# EAGLE library part 632723300011 (library 632723300011)
USB Connectors WR-COM USB3.1 Type C SuperSpeed+ Rcpt Source: Datasheet <http://katalog.we-online.de/em/datasheet/632723x00011.pdf>
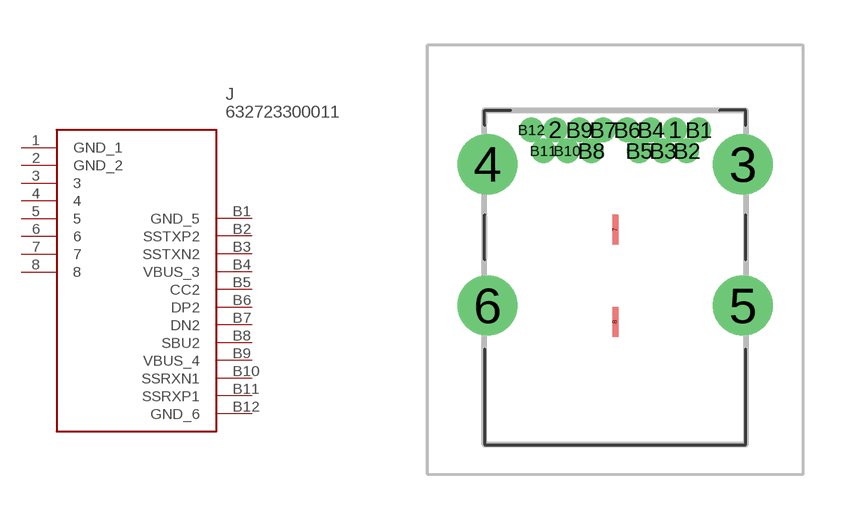
[diagram p0: symbol with the pads of 632723300011; footprint 632723300011]

Designator prefix J

## 632723300011 (DESCRIPTION: USB Connectors WR-COM USB3.1 Type C SuperSpeed+ Rcpt; HEIGHT: 2mm; MANUFACTURER_NAME: Wurth Elektronik; MANUFACTURER_PART_NUMBER: 632723300011; MOUSER_PART_NUMBER: 710-632723300011; MOUSER_PRICE-STOCK: https://www.mouser.co.uk/ProductDetail/Wurth-Elektronik/632723300011?qs=NK6InXoXhq4%252B5eM1PePLPg%3D%3D)  [632723300011]
1  GND_1
2  GND_2
3  3
4  4
5  5
6  6
7  7
8  8
B1  GND_5
B2  SSTXP2
B3  SSTXN2
B4  VBUS_3
B5  CC2
B6  DP2
B7  DN2
B8  SBU2
B9  VBUS_4
B10  SSRXN1
B11  SSRXP1
B12  GND_6

## Footprint 632723300011 (pad centres in mm)
632723300011
drill 0.3 pad 0.55: 1 2,4.645; 2 -2,4.645; B1 2.8,4.645; B2 2.4,3.945; B3 1.6,3.945; B4 1.2,4.645; B5 0.8,3.945; B6 0.4,4.645; B7 -0.4,4.645; B8 -0.8,3.945; B9 -1.2,4.645; B10 -1.6,3.945; B11 -2.4,3.945; B12 -2.8,4.645
drill 1.342 pad 2.012: 3 4.27,3.495; 4 -4.27,3.495; 5 4.27,-1.235; 6 -4.27,-1.235
smd 0.2 x 1: 7 0,1.315; 8 0,-1.785